# Altium footprint library eth_e002.PcbLib: 18 footprints (part 2 of 2)
Each footprint in its own frame and in the unit in brackets; x right, y up, seen from the top. Pads: shape width x height; smd on the part's side, far side on the other; paste and mask are expansions set on the pad; w line width, h text height; cw(c..) or ccw(c..) is an arc to the next point about the centre after c.
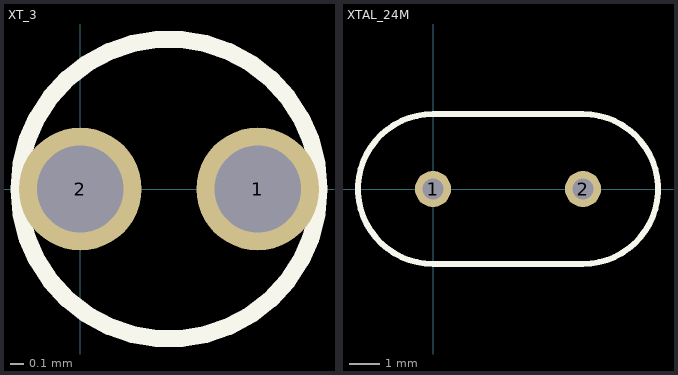
[diagram p1: the footprints below, top view; thin cyan lines are the x and y axes]

## XT_3 [mm]
height 2.2
pads (2):
  round 0.9 hole 0.635: 1(1.3,0) 2(0,0)
Top Overlay:
  circle w0.127: c0.65,0 r1.1

## XTAL_24M [mm]
pads (2):
  round 1.2 hole 0.7: 1(0,0) 2(5,0)
Top Overlay:
  lines w0.2: 0,-2.5 cw(c0,0) 0,2.5 5,2.5 cw(c5,0) 5,-2.5 0,-2.5